# EAGLE library part CONNECTOR_16 (library SnapEDA)
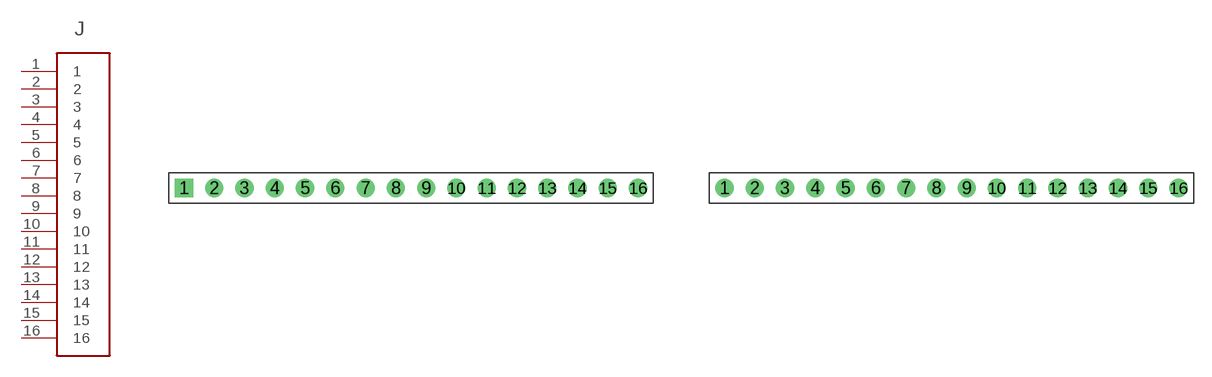
[diagram p6: symbol with the pads of 68000-116HLF; footprints 68000-116HLF, 68000-116HLF-NO-SQUARE]

Designator prefix J

## CONNECTOR_16  [68000-116HLF]
1  1
2  2
3  3
4  4
5  5
6  6
7  7
8  8
9  9
10  10
11  11
12  12
13  13
14  14
15  15
16  16

## CONNECTOR_16-NO_SQUARE  [68000-116HLF-NO-SQUARE]
Pads as for 68000-116HLF

## Footprint 68000-116HLF (pad centres in mm)
drill 1.016 square: 1 0,0
drill 1.016: 2 2.54,0; 3 5.08,0; 4 7.62,0; 5 10.16,0; 6 12.7,0; 7 15.24,0; 8 17.78,0; 9 20.32,0; 10 22.86,0; 11 25.4,0; 12 27.94,0; 13 30.48,0; 14 33.02,0; 15 35.56,0; 16 38.1,0

## Footprint 68000-116HLF-NO-SQUARE (pad centres in mm)
drill 1.016: 1 0,0; 2 2.54,0; 3 5.08,0; 4 7.62,0; 5 10.16,0; 6 12.7,0; 7 15.24,0; 8 17.78,0; 9 20.32,0; 10 22.86,0; 11 25.4,0; 12 27.94,0; 13 30.48,0; 14 33.02,0; 15 35.56,0; 16 38.1,0